# Altium schematic symbol library Библиотека_элементов.SchLib: 17 symbols
Pins are listed as number, name and electrical type; pins without a type are passive.

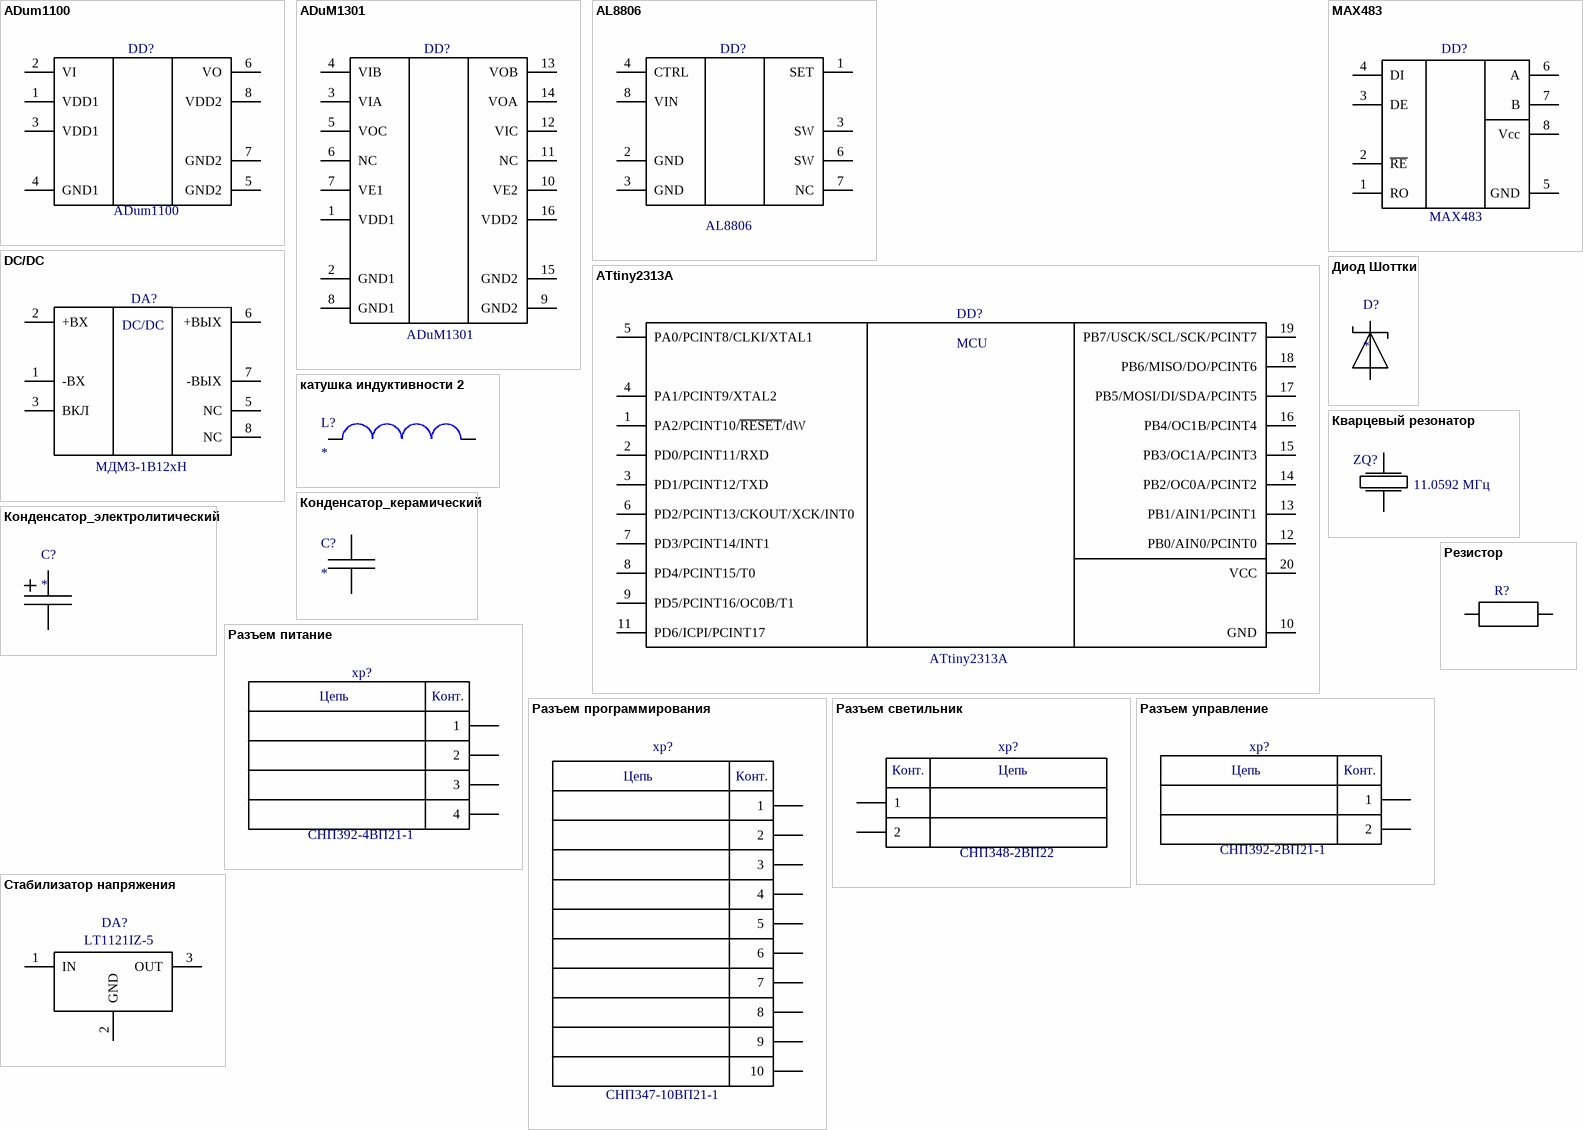
[diagram p0: symbols ADum1100 to Стабилизатор напряжения]

## ADum1100
designator DD?
развязка на светильник
footprint SO-8
pins: 1 VDD1, 2 VI, 3 VDD1, 4 GND1, 5 GND2, 6 VO, 7 GND2, 8 VDD2

## ADuM1301
designator DD?
развязка на RS
footprint SO-16W
pins: 1 VDD1, 2 GND1, 3 VIA, 4 VIB, 5 VOC, 6 NC, 7 VE1, 8 GND1, 9 GND2, 10 VE2, 11 NC, 12 VIC, 13 VOB, 14 VOA, 15 GND2, 16 VDD2

## AL8806
designator DD?
драйвер светильника
footprint Al8806_MSOP8_datasheet
pins: 1 SET, 2 GND, 3 GND, 3 SW, 4 CTRL, 6 SW, 7 NC, 8 VIN

## ATtiny2313A
designator DD?
микроконтроллер
footprint ATtiny2313A_SO20W
pins: 1 PA2/PCINT10/~{RESET}/dW, 2 PD0/PCINT11/RXD, 3 PD1/PCINT12/TXD, 4 PA1/PCINT9/XTAL2, 5 PA0/PCINT8/CLKI/XTAL1, 6 PD2/PCINT13/CKOUT/XCK/INT0, 7 PD3/PCINT14/INT1, 8 PD4/PCINT15/T0, 9 PD5/PCINT16/OC0B/T1, 10 GND, 11 PD6/ICPI/PCINT17, 12 PB0/AIN0/PCINT0, 13 PB1/AIN1/PCINT1, 14 PB2/OC0A/PCINT2, 15 PB3/OC1A/PCINT3, 16 PB4/OC1B/PCINT4, 17 PB5/MOSI/DI/SDA/PCINT5, 18 PB6/MISO/DO/PCINT6, 19 PB7/USCK/SCL/SCK/PCINT7, 20 VCC
text: MCU

## DC/DC
designator DA?, comment МДМ3-1В12хН
Value: МДМ3-1В12хН
footprint MDM-3N
pins: 1 -ВХ, 2 +ВХ, 3 ВКЛ, 5 NC, 6 +ВЫХ, 7 -ВЫХ, 8 NC

## MAX483
designator DD?
RS-485
footprint ADuM1100_MAX483_SO-8 (ADuM1100)
pins: 1 RO, 2 ~{RE}, 3 DE, 4 DI, 5 GND, 6 A, 7 B, 8 Vcc

## Диод Шоттки
designator D?
footprint Diode_datasheet
pins: 1, 2

## катушка индуктивности 2
designator L?
footprint Inductance
pins: 1, 2

## Кварцевый резонатор
designator ZQ?, comment 11.0592 МГц
footprint ZQ1 (Кварцевый резонатор)
pins: 1, 2

## Конденсатор_керамический
designator С?
footprint Capacitor_1206 (С=0.1 мкФ)
footprint Capacitor_1812 (С=1 мкФ)
footprint CAPACITOR_0603
pins: 1, 2

## Конденсатор_электролитический
designator С?
footprint Capacitor_6032 (С=10 мкФ, U=16В,6.3 В)
footprint CAPACITOR_7343 (C=10 мкФ, U=32 В)
footprint Capacitor_M2_datasheet
pins: 1, 2

## Разъем питание
designator xp?, comment СНП392-4ВП21-1
footprint CHP392-4 (СНП392-питание)
pins: 1, 2, 3, 4
text: Цепь; Конт.

## Разъем программирования
designator xp?, comment СНП347-10ВП21-1
footprint CHP347 (СНП347-программирование)
pins: 1, 2, 3, 4, 5, 6, 7, 8, 9, 10
text: Цепь; Конт.

## Разъем светильник
designator xp?, comment СНП348-2ВП22
footprint CHP348 (СНП348-светильник)
pins: 1, 2
text: Конт.; Цепь

## Разъем управление
designator xp?, comment СНП392-2ВП21-1
footprint CHP392-2 (СНП392-2-управление)
pins: 1, 2
text: Цепь; Конт.

## Резистор
designator R?
footprint Resistor_0402 (R=120 Ом)
footprint Resistor_1206 (R= 68 мОм)
pins: 1, 2

## Стабилизатор напряжения
designator DA?, comment LT1121IZ-5
footprint LT1121IZ-5 (Стабилизатор апряжения)
pins: 1 IN, 2 GND, 3 OUT